# Altium footprint library PCI_connectors.PcbLib: 3 footprints
Each footprint in its own frame and in the unit in brackets; x right, y up, seen from the top. Pads: shape width x height; smd on the part's side, far side on the other; paste and mask are expansions set on the pad; w line width, h text height; cw(c..) or ccw(c..) is an arc to the next point about the centre after c.
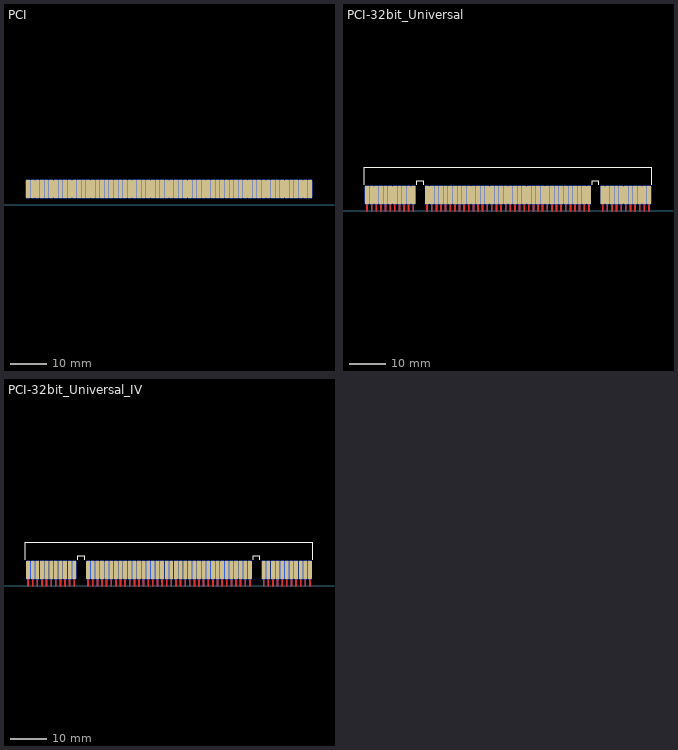
[diagram p0: the footprints below, top view; thin cyan lines are the x and y axes]

## PCI [mm]
pads (124):
  rrect35% 1.16x5 smd far side: A1(41.6,4.39) A2(42.87,4.39) A3(44.14,4.39) A4(45.41,4.39) A5(46.68,4.39) A6(47.95,4.39) A7(49.22,4.39) A8(50.49,4.39) A9(51.76,4.39) A10(53.03,4.39) A11(54.3,4.39) A12(55.57,4.39) A13(56.84,4.39) A14(58.11,4.39) A15(59.38,4.39) A16(60.65,4.39) A17(61.92,4.39) A18(63.19,4.39) A19(64.46,4.39) A20(65.73,4.39) A21(67,4.39) A22(68.27,4.39) A23(69.54,4.39) A24(70.81,4.39) A25(72.08,4.39) A26(73.35,4.39) A27(74.62,4.39) A28(75.89,4.39) A29(77.16,4.39) A30(78.43,4.39) A31(79.7,4.39) A32(80.97,4.39) A33(82.24,4.39) A34(83.51,4.39) A35(84.78,4.39) A36(86.05,4.39) A37(87.32,4.39) A38(88.59,4.39) A39(89.86,4.39) A40(91.13,4.39) A41(92.4,4.39) A42(93.67,4.39) A43(94.94,4.39) A44(96.21,4.39) A45(97.48,4.39) A46(98.75,4.39) A47(100.02,4.39) A48(101.29,4.39) A49(102.56,4.39) A50(103.83,4.39) A51(105.1,4.39) A52(106.37,4.39) A53(107.64,4.39) A54(108.91,4.39) A55(110.18,4.39) A56(111.45,4.39) A57(112.72,4.39) A58(113.99,4.39) A59(115.26,4.39) A60(116.53,4.39) A61(117.8,4.39) A62(119.07,4.39)
  rrect35% 1.16x5 smd: B1(41.6,4.39) B2(42.87,4.39) B3(44.14,4.39) B4(45.41,4.39) B5(46.68,4.39) B6(47.95,4.39) B7(49.22,4.39) B8(50.49,4.39) B9(51.76,4.39) B10(53.03,4.39) B11(54.3,4.39) B12(55.57,4.39) B13(56.84,4.39) B14(58.11,4.39) B15(59.38,4.39) B16(60.65,4.39) B17(61.92,4.39) B18(63.19,4.39) B19(64.46,4.39) B20(65.73,4.39) B21(67,4.39) B22(68.27,4.39) B23(69.54,4.39) B24(70.81,4.39) B25(72.08,4.39) B26(73.35,4.39) B27(74.62,4.39) B28(75.89,4.39) B29(77.16,4.39) B30(78.43,4.39) B31(79.7,4.39) B32(80.97,4.39) B33(82.24,4.39) B34(83.51,4.39) B35(84.78,4.39) B36(86.05,4.39) B37(87.32,4.39) B38(88.59,4.39) B39(89.86,4.39) B40(91.13,4.39) B41(92.4,4.39) B42(93.67,4.39) B43(94.94,4.39) B44(96.21,4.39) B45(97.48,4.39) B46(98.75,4.39) B47(100.02,4.39) B48(101.29,4.39) B49(102.56,4.39) B50(103.83,4.39) B51(105.1,4.39) B52(106.37,4.39) B53(107.64,4.39) B54(108.91,4.39) B55(110.18,4.39) B56(111.45,4.39) B57(112.72,4.39) B58(113.99,4.39) B59(115.26,4.39) B60(116.53,4.39) B61(117.8,4.39) B62(119.07,4.39)

## PCI-32bit_Universal [mm] "PCI Universal 32-bit Card Edge Connector"
pads (116):
  rrect35% 1.16x5 smd far side: A1(41.6,4.39) A2(42.87,4.39) A3(44.14,4.39) A4(45.41,4.39) A5(46.68,4.39) A6(47.95,4.39) A7(49.22,4.39) A8(50.49,4.39) A9(51.76,4.39) A10(53.03,4.39) A11(54.3,4.39) A14(58.11,4.39) A15(59.38,4.39) A16(60.65,4.39) A17(61.92,4.39) A18(63.19,4.39) A19(64.46,4.39) A20(65.73,4.39) A21(67,4.39) A22(68.27,4.39) A23(69.54,4.39) A24(70.81,4.39) A25(72.08,4.39) A26(73.35,4.39) A27(74.62,4.39) A28(75.89,4.39) A29(77.16,4.39) A30(78.43,4.39) A31(79.7,4.39) A32(80.97,4.39) A33(82.24,4.39) A34(83.51,4.39) A35(84.78,4.39) A36(86.05,4.39) A37(87.32,4.39) A38(88.59,4.39) A39(89.86,4.39) A40(91.13,4.39) A41(92.4,4.39) A42(93.67,4.39) A43(94.94,4.39) A44(96.21,4.39) A45(97.48,4.39) A46(98.75,4.39) A47(100.02,4.39) A48(101.29,4.39) A49(102.56,4.39) A52(106.37,4.39) A53(107.64,4.39) A54(108.91,4.39) A55(110.18,4.39) A56(111.45,4.39) A57(112.72,4.39) A58(113.99,4.39) A59(115.26,4.39) A60(116.53,4.39) A61(117.8,4.39) A62(119.07,4.39)
  rrect35% 1.16x5 smd: B1(41.6,4.39) B2(42.87,4.39) B3(44.14,4.39) B4(45.41,4.39) B5(46.68,4.39) B6(47.95,4.39) B7(49.22,4.39) B8(50.49,4.39) B9(51.76,4.39) B10(53.03,4.39) B11(54.3,4.39) B14(58.11,4.39) B15(59.38,4.39) B16(60.65,4.39) B17(61.92,4.39) B18(63.19,4.39) B19(64.46,4.39) B20(65.73,4.39) B21(67,4.39) B22(68.27,4.39) B23(69.54,4.39) B24(70.81,4.39) B25(72.08,4.39) B26(73.35,4.39) B27(74.62,4.39) B28(75.89,4.39) B29(77.16,4.39) B30(78.43,4.39) B31(79.7,4.39) B32(80.97,4.39) B33(82.24,4.39) B34(83.51,4.39) B35(84.78,4.39) B36(86.05,4.39) B37(87.32,4.39) B38(88.59,4.39) B39(89.86,4.39) B40(91.13,4.39) B41(92.4,4.39) B42(93.67,4.39) B43(94.94,4.39) B44(96.21,4.39) B45(97.48,4.39) B46(98.75,4.39) B47(100.02,4.39) B48(101.29,4.39) B49(102.56,4.39) B52(106.37,4.39) B53(107.64,4.39) B54(108.91,4.39) B55(110.18,4.39) B56(111.45,4.39) B57(112.72,4.39) B58(113.99,4.39) B59(115.26,4.39) B60(116.53,4.39) B61(117.8,4.39) B62(119.07,4.39)
Top Layer:
  lines w0.5: 41.6,0 41.6,4.39 ; 42.87,0 42.87,4.39 ; 44.14,0 44.14,4.39 ; 45.41,0 45.41,4.39 ; 46.68,0 46.68,4.39 ; 47.95,0 47.95,4.39 ; 49.22,0 49.22,4.39 ; 50.49,0 50.49,4.39 ; 51.76,0 51.76,4.39 ; 53.02,0 53.02,4.39 ; 54.3,0 54.3,4.39 ; 58.11,0 58.11,4.39 ; 59.38,0 59.38,4.39 ; 60.65,0 60.65,4.39 ; 61.92,0 61.92,4.39 ; 63.19,0 63.19,4.39 ; 64.46,0 64.46,4.39 ; 65.73,0 65.73,4.39 ; 67,0 67,4.39 ; 68.27,0 68.27,4.39 ; 69.54,0 69.54,4.39 ; 70.81,0 70.81,4.39 ; 72.08,0 72.08,4.39 ; 73.35,0 73.35,4.39 ; 74.62,0 74.62,4.39 ; 75.89,0 75.89,4.39 ; 77.16,0 77.16,4.39 ; 78.43,0 78.43,4.39 ; 79.7,0 79.7,4.39 ; 80.97,0 80.97,4.39 ; 82.24,0 82.24,4.39 ; 83.51,0 83.51,4.39 ; 84.78,0 84.78,4.39 ; 86.05,0 86.05,4.39 ; 87.32,0 87.32,4.39 ; 88.59,0 88.59,4.39 ; 89.86,0 89.86,4.39 ; 91.13,0 91.13,4.39 ; 92.4,0 92.4,4.39 ; 93.67,0 93.67,4.39 ; 94.94,0 94.94,4.39 ; 96.21,0 96.21,4.39 ; 97.48,0 97.48,4.39 ; 98.75,0 98.75,4.39 ; 100.02,0 100.02,4.39 ; 101.29,0 101.29,4.39 ; 102.56,0 102.56,4.39 ; 106.37,0 106.37,4.39 ; 107.64,0 107.64,4.39 ; 108.91,0 108.91,4.39 ; 110.18,0 110.18,4.39 ; 111.45,0 111.45,4.39 ; 112.72,0 112.72,4.39 ; 113.99,0 113.99,4.39 ; 115.26,0 115.26,4.39 ; 116.53,0 116.53,4.39 ; 117.8,0 117.8,4.39 ; 119.07,0 119.07,4.39
Bottom Layer:
  lines w0.5: 41.6,0 41.6,4.39 ; 42.87,0 42.87,4.39 ; 44.14,0 44.14,4.39 ; 45.41,0 45.41,4.39 ; 46.68,0 46.68,4.39 ; 47.95,0 47.95,4.39 ; 49.22,0 49.22,4.39 ; 50.49,0 50.49,4.39 ; 51.76,0 51.76,4.39 ; 53.03,0 53.03,4.39 ; 54.3,0 54.3,4.39 ; 58.11,0 58.11,4.39 ; 59.38,0 59.38,4.39 ; 60.65,0 60.65,4.39 ; 61.92,0 61.92,4.39 ; 63.19,0 63.19,4.39 ; 64.46,0 64.46,4.39 ; 65.73,0 65.73,4.39 ; 67,0 67,4.39 ; 68.27,0 68.27,4.39 ; 69.54,0 69.54,4.39 ; 70.81,0 70.81,4.39 ; 72.08,0 72.08,4.39 ; 73.35,0 73.35,4.39 ; 74.62,0 74.62,4.39 ; 75.89,0 75.89,4.39 ; 77.16,0 77.16,4.39 ; 78.43,0 78.43,4.39 ; 79.7,0 79.7,4.39 ; 80.97,0 80.97,4.39 ; 82.24,0 82.24,4.39 ; 83.51,0 83.51,4.39 ; 84.78,0 84.78,4.39 ; 86.05,0 86.05,4.39 ; 87.32,0 87.32,4.39 ; 88.59,0 88.59,4.39 ; 89.86,0 89.86,4.39 ; 91.13,0 91.13,4.39 ; 92.4,0 92.4,4.39 ; 93.67,0 93.67,4.39 ; 94.94,0 94.94,4.39 ; 96.21,0 96.21,4.39 ; 97.48,0 97.48,4.39 ; 98.75,0 98.75,4.39 ; 100.02,0 100.02,4.39 ; 101.29,0 101.29,4.39 ; 102.56,0 102.56,4.39 ; 106.37,0 106.37,4.39 ; 107.64,0 107.64,4.39 ; 108.91,0 108.91,4.39 ; 110.18,0 110.18,4.39 ; 111.45,0 111.45,4.39 ; 112.72,0 112.72,4.39 ; 113.99,0 113.99,4.39 ; 115.26,0 115.26,4.39 ; 116.53,0 116.53,4.39 ; 117.8,0 117.8,4.39 ; 119.07,0 119.07,4.39
Top Overlay:
  lines w0.3: 40.77,7.2 40.77,12.07 119.88,12.07 119.88,7.2 ; 55.28,7.2 55.28,8.3 57.14,8.3 57.14,7.2 ; 103.48,7.2 103.48,8.3 105.34,8.3 105.34,7.2
Bottom Overlay:
  lines w0.3: 40.77,7.2 40.77,12.07 119.88,12.07 119.88,7.2 ; 55.28,7.2 55.28,8.3 57.14,8.3 57.14,7.2 ; 103.48,7.2 103.48,8.3 105.34,8.3 105.34,7.2

## PCI-32bit_Universal_IV [mm] "PCI Universal 32-bit Card Edge Connector"
pads (116):
  rrect35% 1.05x5 smd far side: A1(41.6,4.39) A2(42.87,4.39) A3(44.14,4.39) A4(45.41,4.39) A5(46.68,4.39) A6(47.95,4.39) A7(49.22,4.39) A8(50.49,4.39) A9(51.76,4.39) A10(53.03,4.39) A11(54.3,4.39) A14(58.11,4.39) A15(59.38,4.39) A16(60.65,4.39) A17(61.92,4.39) A18(63.19,4.39) A19(64.46,4.39) A20(65.73,4.39) A21(67,4.39) A22(68.27,4.39) A23(69.54,4.39) A24(70.81,4.39) A25(72.08,4.39) A26(73.35,4.39) A27(74.62,4.39) A28(75.89,4.39) A29(77.16,4.39) A30(78.43,4.39) A31(79.7,4.39) A32(80.97,4.39) A33(82.24,4.39) A34(83.51,4.39) A35(84.78,4.39) A36(86.05,4.39) A37(87.32,4.39) A38(88.59,4.39) A39(89.86,4.39) A40(91.13,4.39) A41(92.4,4.39) A42(93.67,4.39) A43(94.94,4.39) A44(96.21,4.39) A45(97.48,4.39) A46(98.75,4.39) A47(100.02,4.39) A48(101.29,4.39) A49(102.56,4.39) A52(106.37,4.39) A53(107.64,4.39) A54(108.91,4.39) A55(110.18,4.39) A56(111.45,4.39) A57(112.72,4.39) A58(113.99,4.39) A59(115.26,4.39) A60(116.53,4.39) A61(117.8,4.39) A62(119.07,4.39)
  rrect35% 1.05x5 smd: B1(41.6,4.39) B2(42.87,4.39) B3(44.14,4.39) B4(45.41,4.39) B5(46.68,4.39) B6(47.95,4.39) B7(49.22,4.39) B8(50.49,4.39) B9(51.76,4.39) B10(53.03,4.39) B11(54.3,4.39) B14(58.11,4.39) B15(59.38,4.39) B16(60.65,4.39) B17(61.92,4.39) B18(63.19,4.39) B19(64.46,4.39) B20(65.73,4.39) B21(67,4.39) B22(68.27,4.39) B23(69.54,4.39) B24(70.81,4.39) B25(72.08,4.39) B26(73.35,4.39) B27(74.62,4.39) B28(75.89,4.39) B29(77.16,4.39) B30(78.43,4.39) B31(79.7,4.39) B32(80.97,4.39) B33(82.24,4.39) B34(83.51,4.39) B35(84.78,4.39) B36(86.05,4.39) B37(87.32,4.39) B38(88.59,4.39) B39(89.86,4.39) B40(91.13,4.39) B41(92.4,4.39) B42(93.67,4.39) B43(94.94,4.39) B44(96.21,4.39) B45(97.48,4.39) B46(98.75,4.39) B47(100.02,4.39) B48(101.29,4.39) B49(102.56,4.39) B52(106.37,4.39) B53(107.64,4.39) B54(108.91,4.39) B55(110.18,4.39) B56(111.45,4.39) B57(112.72,4.39) B58(113.99,4.39) B59(115.26,4.39) B60(116.53,4.39) B61(117.8,4.39) B62(119.07,4.39)
Top Layer:
  lines w0.5: 41.6,0 41.6,4.39 ; 42.87,0 42.87,4.39 ; 44.14,0 44.14,4.39 ; 45.41,0 45.41,4.39 ; 46.68,0 46.68,4.39 ; 47.95,0 47.95,4.39 ; 49.22,0 49.22,4.39 ; 50.49,0 50.49,4.39 ; 51.76,0 51.76,4.39 ; 53.02,0 53.02,4.39 ; 54.3,0 54.3,4.39 ; 58.11,0 58.11,4.39 ; 59.38,0 59.38,4.39 ; 60.65,0 60.65,4.39 ; 61.92,0 61.92,4.39 ; 63.19,0 63.19,4.39 ; 64.46,0 64.46,4.39 ; 65.73,0 65.73,4.39 ; 67,0 67,4.39 ; 68.27,0 68.27,4.39 ; 69.54,0 69.54,4.39 ; 70.81,0 70.81,4.39 ; 72.08,0 72.08,4.39 ; 73.35,0 73.35,4.39 ; 74.62,0 74.62,4.39 ; 75.89,0 75.89,4.39 ; 77.16,0 77.16,4.39 ; 78.43,0 78.43,4.39 ; 79.7,0 79.7,4.39 ; 80.97,0 80.97,4.39 ; 82.24,0 82.24,4.39 ; 83.51,0 83.51,4.39 ; 84.78,0 84.78,4.39 ; 86.05,0 86.05,4.39 ; 87.32,0 87.32,4.39 ; 88.59,0 88.59,4.39 ; 89.86,0 89.86,4.39 ; 91.13,0 91.13,4.39 ; 92.4,0 92.4,4.39 ; 93.67,0 93.67,4.39 ; 94.94,0 94.94,4.39 ; 96.21,0 96.21,4.39 ; 97.48,0 97.48,4.39 ; 98.75,0 98.75,4.39 ; 100.02,0 100.02,4.39 ; 101.29,0 101.29,4.39 ; 102.56,0 102.56,4.39 ; 106.37,0 106.37,4.39 ; 107.64,0 107.64,4.39 ; 108.91,0 108.91,4.39 ; 110.18,0 110.18,4.39 ; 111.45,0 111.45,4.39 ; 112.72,0 112.72,4.39 ; 113.99,0 113.99,4.39 ; 115.26,0 115.26,4.39 ; 116.53,0 116.53,4.39 ; 117.8,0 117.8,4.39 ; 119.07,0 119.07,4.39
Bottom Layer:
  lines w0.5: 41.6,0 41.6,4.39 ; 42.87,0 42.87,4.39 ; 44.14,0 44.14,4.39 ; 45.41,0 45.41,4.39 ; 46.68,0 46.68,4.39 ; 47.95,0 47.95,4.39 ; 49.22,0 49.22,4.39 ; 50.49,0 50.49,4.39 ; 51.76,0 51.76,4.39 ; 53.03,0 53.03,4.39 ; 54.3,0 54.3,4.39 ; 58.11,0 58.11,4.39 ; 59.38,0 59.38,4.39 ; 60.65,0 60.65,4.39 ; 61.92,0 61.92,4.39 ; 63.19,0 63.19,4.39 ; 64.46,0 64.46,4.39 ; 65.73,0 65.73,4.39 ; 67,0 67,4.39 ; 68.27,0 68.27,4.39 ; 69.54,0 69.54,4.39 ; 70.81,0 70.81,4.39 ; 72.08,0 72.08,4.39 ; 73.35,0 73.35,4.39 ; 74.62,0 74.62,4.39 ; 75.89,0 75.89,4.39 ; 77.16,0 77.16,4.39 ; 78.43,0 78.43,4.39 ; 79.7,0 79.7,4.39 ; 80.97,0 80.97,4.39 ; 82.24,0 82.24,4.39 ; 83.51,0 83.51,4.39 ; 84.78,0 84.78,4.39 ; 86.05,0 86.05,4.39 ; 87.32,0 87.32,4.39 ; 88.59,0 88.59,4.39 ; 89.86,0 89.86,4.39 ; 91.13,0 91.13,4.39 ; 92.4,0 92.4,4.39 ; 93.67,0 93.67,4.39 ; 94.94,0 94.94,4.39 ; 96.21,0 96.21,4.39 ; 97.48,0 97.48,4.39 ; 98.75,0 98.75,4.39 ; 100.02,0 100.02,4.39 ; 101.29,0 101.29,4.39 ; 102.56,0 102.56,4.39 ; 106.37,0 106.37,4.39 ; 107.64,0 107.64,4.39 ; 108.91,0 108.91,4.39 ; 110.18,0 110.18,4.39 ; 111.45,0 111.45,4.39 ; 112.72,0 112.72,4.39 ; 113.99,0 113.99,4.39 ; 115.26,0 115.26,4.39 ; 116.53,0 116.53,4.39 ; 117.8,0 117.8,4.39 ; 119.07,0 119.07,4.39
Top Overlay:
  lines w0.3: 40.77,7.2 40.77,12.07 119.88,12.07 119.88,7.2 ; 55.28,7.2 55.28,8.3 57.14,8.3 57.14,7.2 ; 103.48,7.2 103.48,8.3 105.34,8.3 105.34,7.2
Bottom Overlay:
  lines w0.3: 40.77,7.2 40.77,12.07 119.88,12.07 119.88,7.2 ; 55.28,7.2 55.28,8.3 57.14,8.3 57.14,7.2 ; 103.48,7.2 103.48,8.3 105.34,8.3 105.34,7.2